# EAGLE library part CPL-SEN-PRS-MPXV5004-SMT (library TinWhiskers)
Pressure Sensor: MPXV5004 Series, 8-Lead, Analog (Voltage), Barbed Tube; Package: 8-SMD; Datasheet: http://www.freescale.com/files/sensors/doc/data_sheet/MPXV5004G.pdf
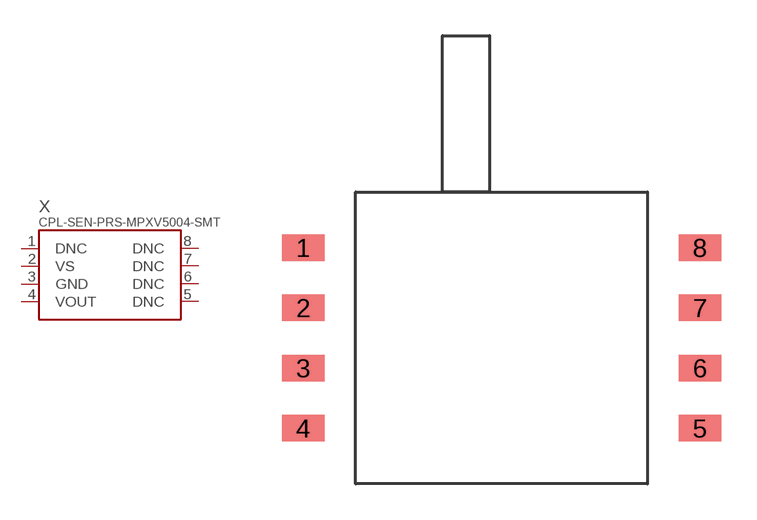
[diagram p36: symbol with the pads of 8-SMD; footprint 8-SMD]

Designator prefix X

## CPL-SEN-PRS-MPXV5004-SMT  [8-SMD]
1  DNC
2  VS
3  GND
4  VOUT
5  DNC
6  DNC
7  DNC
8  DNC

## Footprint 8-SMD (pad centres in mm)
8-SMD; Source: Freescale Semiconductor (http://www.freescale.com/files/sensors/doc/data_sheet/MPX5050.pdf)
smd 1.8 x 1.115: 1 -8.367,3.81; 2 -8.367,1.27; 3 -8.367,-1.27; 4 -8.367,-3.81; 5 8.367,-3.81; 6 8.367,-1.27; 7 8.367,1.27; 8 8.367,3.81